# Altium footprint library STT6N3LLH6.PcbLib: 3 footprints
Each footprint in its own frame and in the unit in brackets; x right, y up, seen from the top. Pads: shape width x height; smd on the part's side, far side on the other; paste and mask are expansions set on the pad; w line width, h text height; cw(c..) or ccw(c..) is an arc to the next point about the centre after c.
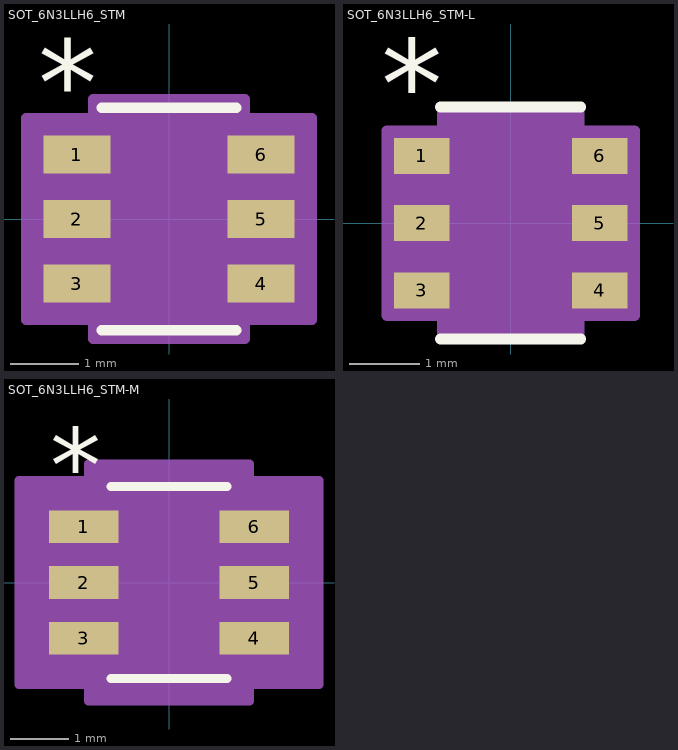
[diagram p0: the footprints below, top view; thin cyan lines are the x and y axes]

## SOT_6N3LLH6_STM [mm]
pads (6):
  rect 0.985x0.558 smd paste+0 mask+0: 1(-1.356,0.95) 2(-1.356,0) 3(-1.356,-0.95) 4(1.356,-0.95) 5(1.356,0) 6(1.356,0.95)
Top Overlay:
  lines w0.152: -0.991,-1.638 0.991,-1.638 ; -0.991,1.638 0.991,1.638
  text "*" at -1.928,1.381 h1.27
Mechanical 13:
  lines w0.025: -0.305,1.511 ccw(c0,1.511) 0.305,1.511 ; -1.499,-1.204 -0.864,-1.204 -0.864,-0.696 -1.499,-0.696 -1.499,-1.204 ; -1.499,-0.254 -0.864,-0.254 -0.864,0.254 -1.499,0.254 -1.499,-0.254 ; -1.499,0.696 -0.864,0.696 -0.864,1.204 -1.499,1.204 -1.499,0.696 ; -0.864,-1.511 -0.864,1.511 0.864,1.511 0.864,-1.511 -0.864,-1.511 ; 0.864,-1.204 1.499,-1.204 1.499,-0.696 0.864,-0.696 0.864,-1.204 ; 0.864,-0.254 1.499,-0.254 1.499,0.254 0.864,0.254 0.864,-0.254 ; 0.864,0.696 1.499,0.696 1.499,1.204 0.864,1.204 0.864,0.696
  text "*" at -0.8,0.165 h1.27
Mechanical 15:
  region: -1.118,-1.483 -2.103,-1.483 -2.103,1.483 -1.118,1.483 -1.118,1.765 1.118,1.765 1.118,1.483 2.103,1.483 2.103,-1.483 1.118,-1.483 1.118,-1.765 -1.118,-1.765
  lines w0.152: -2.103,-1.483 -1.118,-1.483 -1.118,-1.765 1.118,-1.765 1.118,-1.483 2.103,-1.483 2.103,1.483 1.118,1.483 1.118,1.765 -1.118,1.765 -1.118,1.483 -2.103,1.483 -2.103,-1.483
3D body "SOT_6N3LLH6_STM.step": height 1.25, standoff 0, extent -1.499,-1.511 1.499,1.511

## SOT_6N3LLH6_STM-L [mm]
pads (6):
  rect 0.785x0.508 smd paste+0 mask+0: 1(-1.256,0.95) 2(-1.256,0) 3(-1.256,-0.95) 4(1.256,-0.95) 5(1.256,0) 6(1.256,0.95)
Top Overlay:
  lines w0.152: -0.991,-1.638 0.991,-1.638 ; -0.991,1.638 0.991,1.638
  text ".Designator" at -3.492,-0.635 h1.27
  text "*" at -1.828,1.331 h1.27
Mechanical 13:
  lines w0.025: -0.305,1.511 ccw(c0,1.511) 0.305,1.511 ; -1.499,-1.204 -1.499,-0.696 -0.864,-0.696 -0.864,-1.204 -1.499,-1.204 ; -1.499,-0.254 -1.499,0.254 -0.864,0.254 -0.864,-0.254 -1.499,-0.254 ; -1.499,0.696 -1.499,1.204 -0.864,1.204 -0.864,0.696 -1.499,0.696 ; -0.864,-1.511 0.864,-1.511 0.864,1.511 -0.864,1.511 -0.864,-1.511 ; 0.864,-1.204 0.864,-0.696 1.499,-0.696 1.499,-1.204 0.864,-1.204 ; 0.864,-0.254 0.864,0.254 1.499,0.254 1.499,-0.254 0.864,-0.254 ; 0.864,0.696 0.864,1.204 1.499,1.204 1.499,0.696 0.864,0.696
  text "*" at -0.8,0.165 h1.27
  text ".Designator" at -3.492,-0.635 h1.27
Mechanical 15:
  region: -0.965,-1.306 -1.75,-1.306 -1.75,1.306 -0.965,1.306 -0.965,1.613 0.965,1.613 0.965,1.306 1.75,1.306 1.75,-1.306 0.965,-1.306 0.965,-1.613 -0.965,-1.613
  lines w0.152: -1.75,-1.306 -1.75,1.306 -0.965,1.306 -0.965,1.613 0.965,1.613 0.965,1.306 1.75,1.306 1.75,-1.306 0.965,-1.306 0.965,-1.613 -0.965,-1.613 -0.965,-1.306 -1.75,-1.306
3D body "SOT_6N3LLH6_STM.step": height 1.25, standoff 0, extent -1.499,-1.511 1.499,1.511

## SOT_6N3LLH6_STM-M [mm]
pads (6):
  rect 1.185x0.558 smd paste+0 mask+0: 1(-1.456,0.95) 2(-1.456,0) 3(-1.456,-0.95) 4(1.456,-0.95) 5(1.456,0) 6(1.456,0.95)
Top Overlay:
  lines w0.152: -0.991,-1.638 0.991,-1.638 ; -0.991,1.638 0.991,1.638
  text ".Designator" at -3.492,-0.635 h1.27
  text "*" at -2.028,1.381 h1.27
Mechanical 13:
  lines w0.025: -0.305,1.511 ccw(c0,1.511) 0.305,1.511 ; -1.499,-1.204 -1.499,-0.696 -0.864,-0.696 -0.864,-1.204 -1.499,-1.204 ; -1.499,-0.254 -1.499,0.254 -0.864,0.254 -0.864,-0.254 -1.499,-0.254 ; -1.499,0.696 -1.499,1.204 -0.864,1.204 -0.864,0.696 -1.499,0.696 ; -0.864,-1.511 0.864,-1.511 0.864,1.511 -0.864,1.511 -0.864,-1.511 ; 0.864,-1.204 0.864,-0.696 1.499,-0.696 1.499,-1.204 0.864,-1.204 ; 0.864,-0.254 0.864,0.254 1.499,0.254 1.499,-0.254 0.864,-0.254 ; 0.864,0.696 0.864,1.204 1.499,1.204 1.499,0.696 0.864,0.696
  text "*" at -0.8,0.165 h1.27
  text ".Designator" at -3.492,-0.635 h1.27
Mechanical 15:
  region: -1.372,-1.737 -2.557,-1.737 -2.557,1.737 -1.372,1.737 -1.372,2.019 1.372,2.019 1.372,1.737 2.557,1.737 2.557,-1.737 1.372,-1.737 1.372,-2.019 -1.372,-2.019
  lines w0.152: -2.557,-1.737 -2.557,1.737 -1.372,1.737 -1.372,2.019 1.372,2.019 1.372,1.737 2.557,1.737 2.557,-1.737 1.372,-1.737 1.372,-2.019 -1.372,-2.019 -1.372,-1.737 -2.557,-1.737
3D body "SOT_6N3LLH6_STM.step": height 1.25, standoff 0, extent -1.499,-1.511 1.499,1.511